# EAGLE library part SN74LVC8T245 (library pixhawk2)
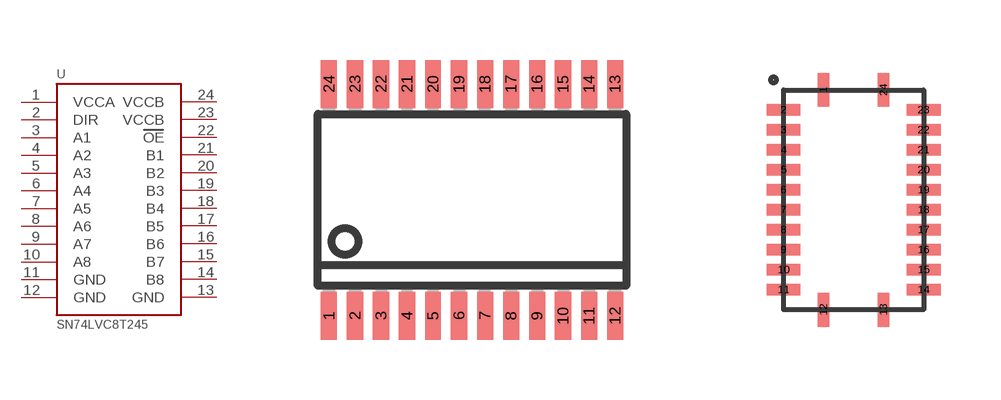
[diagram p21: symbol with the pads of R-PDSO-G24; footprints R-PDSO-G24, QFN24-RHL]

Designator prefix -

## SN74LVC8T245R-PDSO-G24  [R-PDSO-G24]
1  VCCA
2  DIR
3  A1
4  A2
5  A3
6  A4
7  A5
8  A6
9  A7
10  A8
11  GND
12  GND
13  GND
14  B8
15  B7
16  B6
17  B5
18  B4
19  B3
20  B2
21  B1
22  OE
23  VCCB
24  VCCB

## SN74LVC8T245RHL  [QFN24-RHL]
1  VCCA
2  DIR
3  A1
4  A2
5  A3
6  A4
7  A5
8  A6
9  A7
10  A8
11  GND
12  GND
13  GND
14  B8
15  B7
16  B6
17  B5
18  B4
19  B3
20  B2
21  B1
22  OE
23  VCCB
24  VCCB

## Footprint R-PDSO-G24 (pad centres in mm)
PLASTIC SMALL-OUTLINE PACKAGE SO 24 JEDEC MO-153 Source: www.ti.com/.. slvs087l.pdf
smd 0.4 x 1.2: 1 -3.575,-2.9; 2 -2.925,-2.9; 3 -2.275,-2.9; 4 -1.625,-2.9; 5 -0.975,-2.9; 6 -0.325,-2.9; 7 0.325,-2.9; 8 0.975,-2.9; 9 1.625,-2.9; 10 2.275,-2.9; 11 2.925,-2.9; 12 3.575,-2.9; 13 3.575,2.9; 14 2.925,2.9; 15 2.275,2.9; 16 1.625,2.9; 17 0.975,2.9; 18 0.325,2.9; 19 -0.325,2.9; 20 -0.975,2.9; 21 -1.625,2.9; 22 -2.275,2.9; 23 -2.925,2.9; 24 -3.575,2.9

## Footprint QFN24-RHL (pad centres in mm)
smd 0.28 x 0.85: 1 -0.75,2.25; 12 -0.75,-3.25; 13 0.75,-3.25; 24 0.75,2.25
smd 0.85 x 0.28: 2 -1.75,1.75; 3 -1.75,1.25; 4 -1.75,0.75; 5 -1.75,0.25; 6 -1.75,-0.25; 7 -1.75,-0.75; 8 -1.75,-1.25; 9 -1.75,-1.75; 10 -1.75,-2.25; 11 -1.75,-2.75; 14 1.75,-2.75; 15 1.75,-2.25; 16 1.75,-1.75; 17 1.75,-1.25; 18 1.75,-0.75; 19 1.75,-0.25; 20 1.75,0.25; 21 1.75,0.75; 22 1.75,1.25; 23 1.75,1.75